# EAGLE library part ATMEGA48P-20AUR (library Labops_Lib_AH)
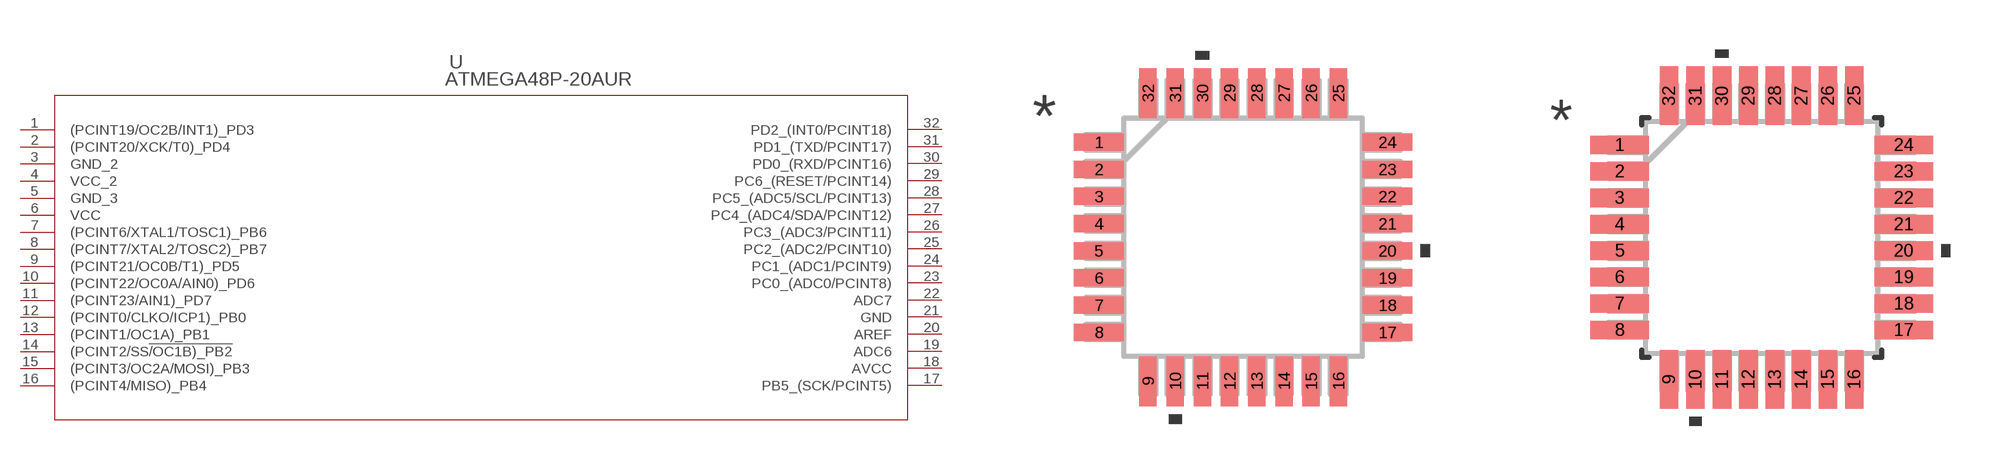
[diagram p54: symbol with the pads of 32A_ATM; footprints 32A_ATM, 32A_ATM-M]

Designator prefix U

## ATMEGA48P-20AUR (BUILT_BY: EMA_UL_Team; MANUFACTURER_PART_NUMBER: ATMEGA48P-20AUR; SOURCELIBRARY: Atmel_2014-06-19; VENDOR: Atmel)  [32A_ATM]
1  (PCINT19/OC2B/INT1)_PD3
2  (PCINT20/XCK/T0)_PD4
3  GND_2  pwr
4  VCC_2  pwr
5  GND_3  pwr
6  VCC  pwr
7  (PCINT6/XTAL1/TOSC1)_PB6
8  (PCINT7/XTAL2/TOSC2)_PB7
9  (PCINT21/OC0B/T1)_PD5
10  (PCINT22/OC0A/AIN0)_PD6
11  (PCINT23/AIN1)_PD7
12  (PCINT0/CLKO/ICP1)_PB0
13  (PCINT1/OC1A)_PB1
14  (PCINT2/SS!/OC1B)_PB2
15  (PCINT3/OC2A/MOSI)_PB3
16  (PCINT4/MISO)_PB4
17  PB5_(SCK/PCINT5)
18  AVCC  pwr
19  ADC6  in
20  AREF  pas
21  GND  pwr
22  ADC7  in
23  PC0_(ADC0/PCINT8)
24  PC1_(ADC1/PCINT9)
25  PC2_(ADC2/PCINT10)
26  PC3_(ADC3/PCINT11)
27  PC4_(ADC4/SDA/PCINT12)
28  PC5_(ADC5/SCL/PCINT13)
29  PC6_(RESET/PCINT14)
30  PD0_(RXD/PCINT16)
31  PD1_(TXD/PCINT17)
32  PD2_(INT0/PCINT18)

## ATMEGA48P-20AUR32A_ATM-M (BUILT_BY: EMA_UL_Team; MANUFACTURER_PART_NUMBER: ATMEGA48P-20AUR; SOURCELIBRARY: Atmel_2014-06-19; VENDOR: Atmel)  [32A_ATM-M]
Pads as for 32A_ATM

## ATMEGA48P-20AUR32A_ATM-L (BUILT_BY: EMA_UL_Team; MANUFACTURER_PART_NUMBER: ATMEGA48P-20AUR; SOURCELIBRARY: Atmel_2014-06-19; VENDOR: Atmel)  [32A_ATM-L]
Pads as for 32A_ATM

## Footprint 32A_ATM (pad centres in mm)
smd 1.473 x 0.508: 1 -4.242,2.8; 2 -4.242,2; 3 -4.242,1.2; 4 -4.242,0.4; 5 -4.242,-0.4; 6 -4.242,-1.2; 7 -4.242,-2; 8 -4.242,-2.8; 17 4.242,-2.8; 18 4.242,-2; 19 4.242,-1.2; 20 4.242,-0.4; 21 4.242,0.4; 22 4.242,1.2; 23 4.242,2; 24 4.242,2.8
smd 0.508 x 1.473: 9 -2.8,-4.242; 10 -2,-4.242; 11 -1.2,-4.242; 12 -0.4,-4.242; 13 0.4,-4.242; 14 1.2,-4.242; 15 2,-4.242; 16 2.8,-4.242; 25 2.8,4.242; 26 2,4.242; 27 1.2,4.242; 28 0.4,4.242; 29 -0.4,4.242; 30 -1.2,4.242; 31 -2,4.242; 32 -2.8,4.242

## Footprint 32A_ATM-M (pad centres in mm)
smd 1.778 x 0.559: 1 -4.293,2.8; 2 -4.293,2; 3 -4.293,1.2; 4 -4.293,0.4; 5 -4.293,-0.4; 6 -4.293,-1.2; 7 -4.293,-2; 8 -4.293,-2.8; 17 4.293,-2.8; 18 4.293,-2; 19 4.293,-1.2; 20 4.293,-0.4; 21 4.293,0.4; 22 4.293,1.2; 23 4.293,2; 24 4.293,2.8
smd 0.559 x 1.778: 9 -2.8,-4.293; 10 -2,-4.293; 11 -1.2,-4.293; 12 -0.4,-4.293; 13 0.4,-4.293; 14 1.2,-4.293; 15 2,-4.293; 16 2.8,-4.293; 25 2.8,4.293; 26 2,4.293; 27 1.2,4.293; 28 0.4,4.293; 29 -0.4,4.293; 30 -1.2,4.293; 31 -2,4.293; 32 -2.8,4.293

## Footprint 32A_ATM-L (pad centres in mm)
smd 1.168 x 0.457: 1 -4.191,2.8; 2 -4.191,2; 3 -4.191,1.2; 4 -4.191,0.4; 5 -4.191,-0.4; 6 -4.191,-1.2; 7 -4.191,-2; 8 -4.191,-2.8; 17 4.191,-2.8; 18 4.191,-2; 19 4.191,-1.2; 20 4.191,-0.4; 21 4.191,0.4; 22 4.191,1.2; 23 4.191,2; 24 4.191,2.8
smd 0.457 x 1.168: 9 -2.8,-4.191; 10 -2,-4.191; 11 -1.2,-4.191; 12 -0.4,-4.191; 13 0.4,-4.191; 14 1.2,-4.191; 15 2,-4.191; 16 2.8,-4.191; 25 2.8,4.191; 26 2,4.191; 27 1.2,4.191; 28 0.4,4.191; 29 -0.4,4.191; 30 -1.2,4.191; 31 -2,4.191; 32 -2.8,4.191